# Altium footprint library CAPC3225X160.PcbLib: 3 footprints
Each footprint in its own frame and in the unit in brackets; x right, y up, seen from the top. Pads: shape width x height; smd on the part's side, far side on the other; paste and mask are expansions set on the pad; w line width, h text height; cw(c..) or ccw(c..) is an arc to the next point about the centre after c.
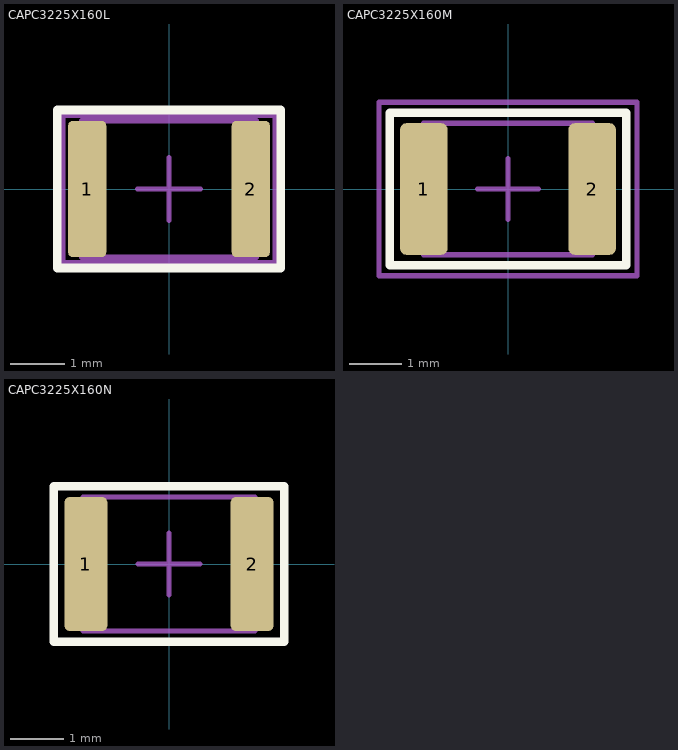
[diagram p0: the footprints below, top view; thin cyan lines are the x and y axes]

## CAPC3225X160L [mm] "Capacitors, Chip, Non-polarized"
height 1.7
pads (2):
  rrect25% 0.7x2.5 smd: 1(-1.5,0) 2(1.5,0)
Top Overlay:
  lines w0.16: -2.05,-1.45 2.05,-1.45 2.05,1.45 -2.05,1.45 -2.05,-1.45
Top Component Center:
  lines w0.1: -0.575,0 0.575,0 ; 0,-0.575 0,0.575
Top Courtyard:
  lines w0.1: -1.95,-1.35 1.95,-1.35 1.95,1.35 -1.95,1.35 -1.95,-1.35
Top Assembly:
  lines w0.1: -1.6,-1.25 1.6,-1.25 1.6,1.25 -1.6,1.25 -1.6,-1.25
  text ".Designator" at 0,0 h1
3D body "CAPC3225X160L.STEP": height 1.6, standoff 0, extent -1.6,-1.25 1.6,1.25

## CAPC3225X160M [mm] "Capacitors, Chip, Non-polarized"
height 1.7
pads (2):
  rrect25% 0.9x2.5 smd: 1(-1.6,0) 2(1.6,0)
Top Overlay:
  lines w0.16: -2.25,-1.45 2.25,-1.45 2.25,1.45 -2.25,1.45 -2.25,-1.45
Top Component Center:
  lines w0.1: -0.575,0 0.575,0 ; 0,-0.575 0,0.575
Top Courtyard:
  lines w0.1: -2.45,-1.65 2.45,-1.65 2.45,1.65 -2.45,1.65 -2.45,-1.65
Top Assembly:
  lines w0.1: -1.6,-1.25 1.6,-1.25 1.6,1.25 -1.6,1.25 -1.6,-1.25
  text ".Designator" at 0,0 h1
3D body "CAPC3225X160M.STEP": height 1.6, standoff 0, extent -1.6,-1.25 1.6,1.25

## CAPC3225X160N [mm] "Capacitors, Chip, Non-polarized"
height 1.7
pads (2):
  rrect25% 0.8x2.5 smd: 1(-1.55,0) 2(1.55,0)
Top Overlay:
  lines w0.16: -2.15,-1.45 2.15,-1.45 2.15,1.45 -2.15,1.45 -2.15,-1.45
Top Component Center:
  lines w0.1: -0.575,0 0.575,0 ; 0,-0.575 0,0.575
Top Courtyard:
  lines w0.1: -2.15,-1.45 2.15,-1.45 2.15,1.45 -2.15,1.45 -2.15,-1.45
Top Assembly:
  lines w0.1: -1.6,-1.25 1.6,-1.25 1.6,1.25 -1.6,1.25 -1.6,-1.25
  text ".Designator" at 0,0 h1
3D body "CAPC3225X160N.STEP": height 1.6, standoff 0, extent -1.6,-1.25 1.6,1.25